# Altium schematic symbol library SnapEDAsch.SchLib: 1 symbol
Pins are listed as number, name and electrical type; pins without a type are passive.

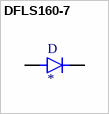
[diagram p0: symbol DFLS160-7]

## DFLS160-7
designator D
Diode Schottky 60V 1A Surface Mount PowerDIâ„¢ 123; MF: Diodes Inc.; MP: DFLS160-7; Value: *; SnapEDA_Link: https://www.snapeda.com/parts/DFLS160-7/Diodes%20Inc./view-part/454054/?ref=snap; Availability: Unavailable; Price: None; Package: POWERDIÂ®123 Diodes Inc.
footprint POWERDI-123
pins: A, C